# EAGLE library part LTV827-SMD (library Analog)
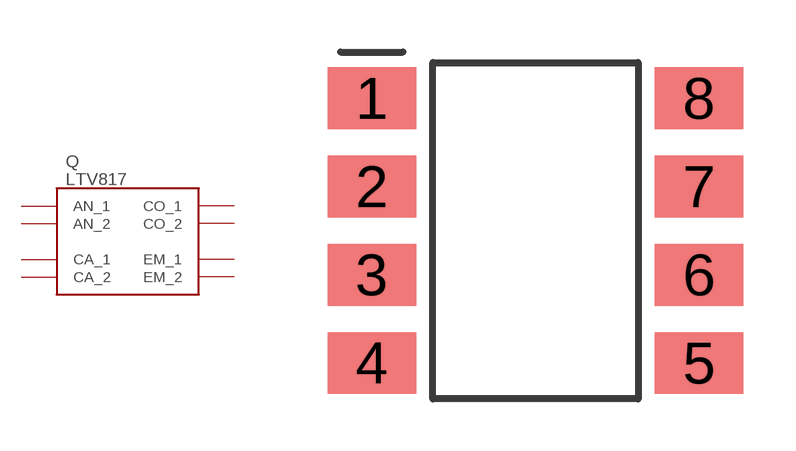
[diagram p0: symbol with the pads of PDIP8-GULLWING; footprint PDIP8-GULLWING]

Designator prefix Q

## LTV827-SMD  [PDIP8-GULLWING]
1  AN_1
2  CA_1
3  AN_2
4  CA_2
5  EM_2
6  CO_2
7  EM_1
8  CO_1

## Footprint PDIP8-GULLWING (pad centres in mm)
LTV-827S
smd 2.54 x 1.778: 1 -4.705,3.81; 2 -4.705,1.27; 3 -4.705,-1.27; 4 -4.705,-3.81; 5 4.705,-3.81; 6 4.705,-1.27; 7 4.705,1.27; 8 4.705,3.81